# Altium footprint library QFM.PcbLib: 1 footprints
Each footprint in its own frame and in the unit in brackets; x right, y up, seen from the top. Pads: shape width x height; smd on the part's side, far side on the other; paste and mask are expansions set on the pad; w line width, h text height; cw(c..) or ccw(c..) is an arc to the next point about the centre after c.
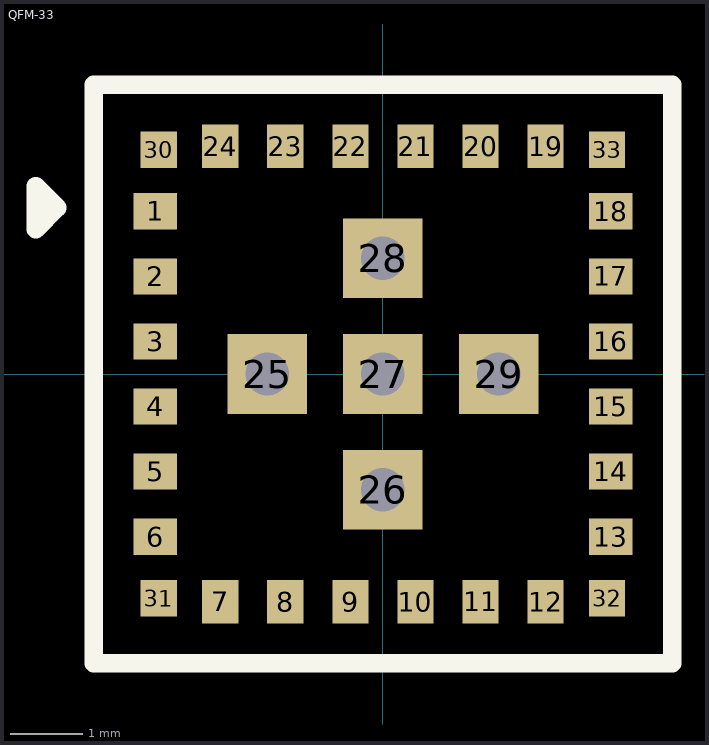
[diagram p0: the footprint, top view; thin cyan lines are the x and y axes]

## QFM-33 [mm] "QFM - 1.4 mm max height"
height 1.4
pads (33):
  rect 0.6x0.5 smd: 1(-3.15,2.25) 2(-3.15,1.35) 3(-3.15,0.45) 4(-3.15,-0.45) 5(-3.15,-1.35) 6(-3.15,-2.25) 13(3.15,-2.25) 14(3.15,-1.35) 15(3.15,-0.45) 16(3.15,0.45) 17(3.15,1.35) 18(3.15,2.25)
  rect 0.5x0.6 smd: 7(-2.25,-3.15) 8(-1.35,-3.15) 9(-0.45,-3.15) 10(0.45,-3.15) 11(1.35,-3.15) 12(2.25,-3.15) 19(2.25,3.15) 20(1.35,3.15) 21(0.45,3.15) 22(-0.45,3.15) 23(-1.35,3.15) 24(-2.25,3.15)
  rect 1.1x1.1 hole 0.6: 25(-1.6,0) 26(0,-1.6) 27(0,0) 28(0,1.6) 29(1.6,0)
  rect 0.5x0.5 smd: 30(-3.1,3.1) 31(-3.1,-3.1) 32(3.1,-3.1) 33(3.1,3.1)
Top Overlay:
  lines w0.254: -4.8,2 -4.8,2.6 -4.5,2.3 -4.8,2 ; -4,-4 -4,4 4,4 4,-4 -4,-4
3D body "User Library-TiWi-uB2.step": height 1.5, standoff -0.05, extent -3.5,-3.5 3.5,3.5